# Altium schematic symbol library MPSA56-AP.SchLib: 1 symbol
Pins are listed as number, name and electrical type; pins without a type are passive.

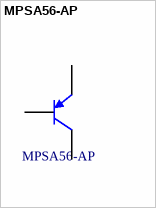
[diagram p0: symbol MPSA56-AP]

## MPSA56-AP
designator T?  MfrPartNo: MPSA56-AP
pins: 1 E, 2 B, 3 C